# Altium schematic symbol library mrsl.SchLib: 228 symbols (part 2 of 2)
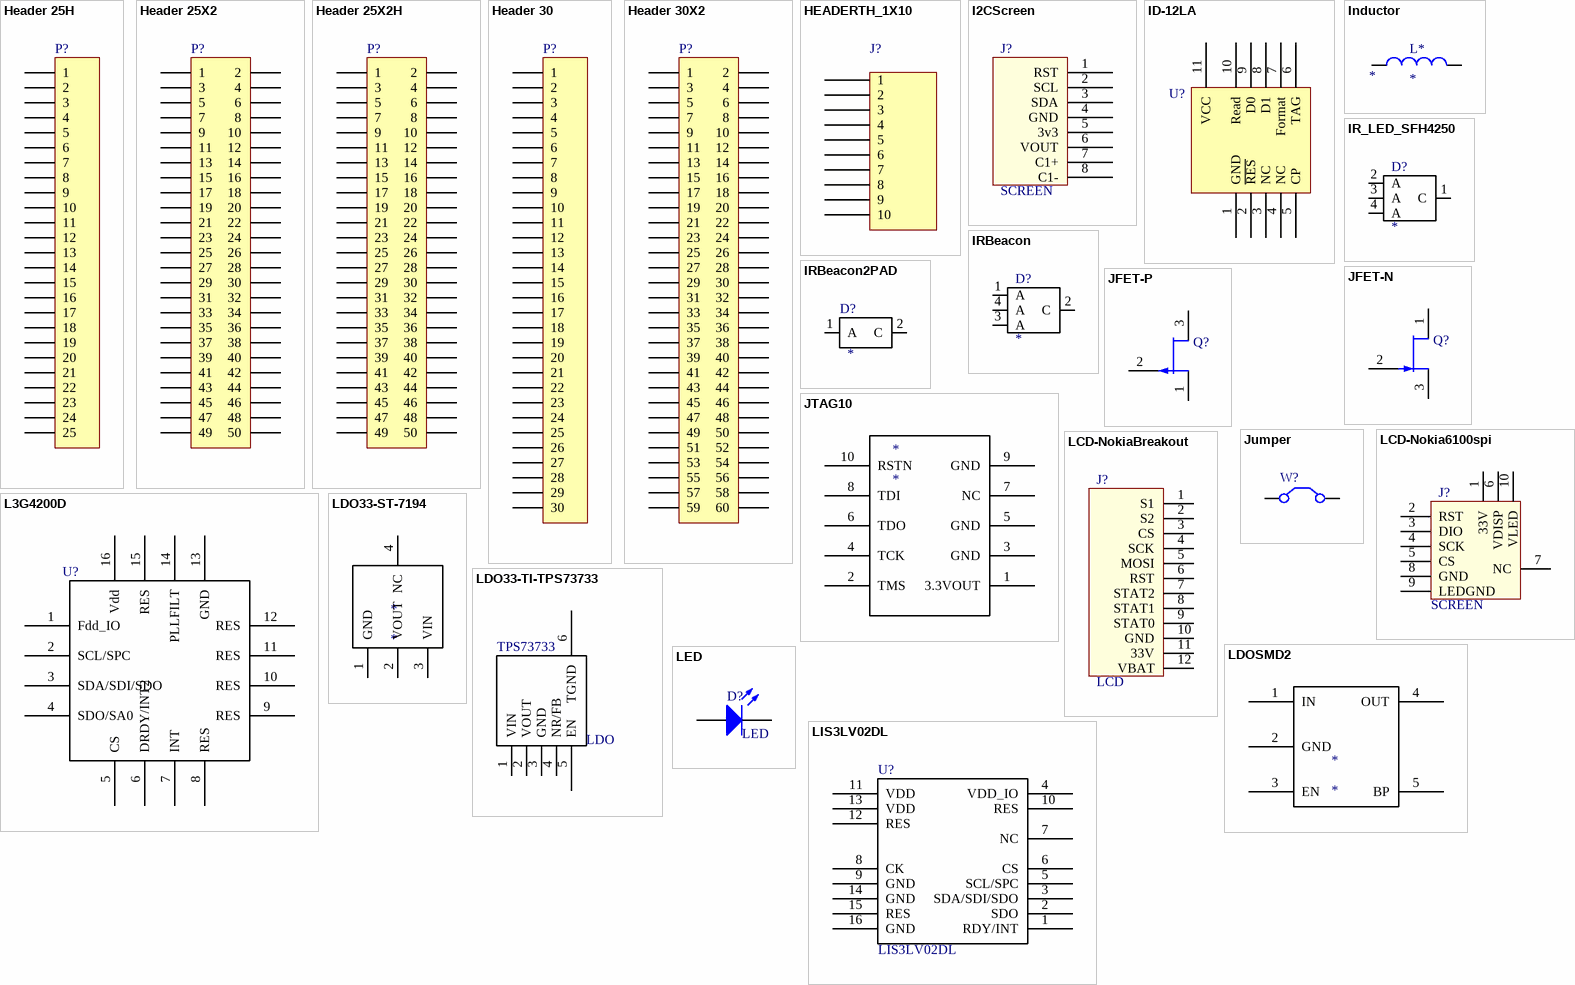
[diagram p8: symbols Header 25H to LIS3LV02DL]

## Header 25H
designator P?
Header, 25-Pin, Right Angle; LatestRevisionDate: 17-Jul-2002; LatestRevisionNote: Re-released for DXP Platform.; Publisher: Altium Limited
footprint HDR1X25H (Connector; Header; 25 Position; Right Angle)
signal-integrity model Connector
pins: 1, 2, 3, 4, 5, 6, 7, 8, 9, 10, 11, 12, 13, 14, 15, 16, 17, 18, 19, 20, 21, 22, 23, 24, 25

## Header 25X2
designator P?
Header, 25-Pin, Dual row; LatestRevisionDate: 17-Jul-2002; LatestRevisionNote: Re-released for DXP Platform.; Publisher: Altium Limited
footprint HDR2X25 (Connector; Header; 25x2 Position)
signal-integrity model Connector
pins: 1, 2, 3, 4, 5, 6, 7, 8, 9, 10, 11, 12, 13, 14, 15, 16, 17, 18, 19, 20, 21, 22, 23, 24, 25, 26, 27, 28, 29, 30, 31, 32, 33, 34, 35, 36, 37, 38, 39, 40, 41, 42, 43, 44, 45, 46, 47, 48, 49, 50

## Header 25X2H
designator P?
Header, 25-Pin, Dual row, Right Angle; LatestRevisionDate: 17-Jul-2002; LatestRevisionNote: Re-released for DXP Platform.; Publisher: Altium Limited
footprint HDR2X25H (Connector; Header; 25x2 Position; Right Angle)
signal-integrity model Connector
pins: 1, 2, 3, 4, 5, 6, 7, 8, 9, 10, 11, 12, 13, 14, 15, 16, 17, 18, 19, 20, 21, 22, 23, 24, 25, 26, 27, 28, 29, 30, 31, 32, 33, 34, 35, 36, 37, 38, 39, 40, 41, 42, 43, 44, 45, 46, 47, 48, 49, 50

## Header 30
designator P?
Header, 30-Pin; LatestRevisionDate: 17-Jul-2002; LatestRevisionNote: Re-released for DXP Platform.; Publisher: Altium Limited
footprint HDR1X30 (Connector; Header; 30 Position)
signal-integrity model Connector
pins: 1, 2, 3, 4, 5, 6, 7, 8, 9, 10, 11, 12, 13, 14, 15, 16, 17, 18, 19, 20, 21, 22, 23, 24, 25, 26, 27, 28, 29, 30

## Header 30X2
designator P?
Header, 30-Pin, Dual row; LatestRevisionDate: 17-Jul-2002; LatestRevisionNote: Re-released for DXP Platform.; Publisher: Altium Limited
footprint HDR2X30 (Connector; Header; 30x2 Position)
signal-integrity model Connector
pins: 1, 2, 3, 4, 5, 6, 7, 8, 9, 10, 11, 12, 13, 14, 15, 16, 17, 18, 19, 20, 21, 22, 23, 24, 25, 26, 27, 28, 29, 30, 31, 32, 33, 34, 35, 36, 37, 38, 39, 40, 41, 42, 43, 44, 45, 46, 47, 48, 49, 50, 51, 52, 53, 54, 55, 56, 57, 58, 59, 60

## HEADERTH_1X10
designator J?  (value not drawn)
footprint HEADERTH 1X10
pins: 1, 2, 3, 4, 5, 6, 7, 8, 9, 10

## I2CScreen
designator J?, comment SCREEN
footprint ScreenI2C (newhaven Display)
pins: 1 RST, 2 SCL, 3 SDA, 4 GND, 5 3v3, 6 VOUT, 7 C1+, 8 C1-

## ID-12LA
designator U?  (value not drawn)
footprint ID12-LA
pins: 1 GND, 2 ~{RES}, 3 NC (power), 4 NC (power), 5 CP, 6 TAG (power), 7 Format, 8 D1 (power), 9 D0 (power), 10 Read (power), 11 VCC (power)

## Inductor
designator L*
Value: *
footprint IndPow
pins: 1, 2

## IR_LED_SFH4250
designator D?
footprint IR_LED_SFH4250
pins: 1 C, 2 A, 3 A, 4 A

## IRBeacon
designator D?
footprint IRBeacon
pins: 1 A, 2 C, 3 A, 4 A

## IRBeacon2PAD
designator D?
footprint IRBeacon2pad
pins: 1 A, 2 C

## JFET-N
designator Q?
N-Channel JFET; Published: 8-Jun-2000; LatestRevisionDate: 17-Jul-2002; LatestRevisionNote: Re-released for DXP Platform.; PackageReference: TO-254-AA; Publisher: Altium Limited; Code_JEDEC: TO-254-AA
footprint SFM-T3/A6.6V (TO, Thru-Hole, Vertical, Heatsink Mounted; 3 In-Line Leads; Pitch 3.81 mm)
simulation model NJFET
pins: 1 D, 2 G, 3 S

## JFET-P
designator Q?
P-Channel JFET; Published: 8-Jun-2000; LatestRevisionDate: 17-Jul-2002; LatestRevisionNote: Re-released for DXP Platform.; PackageReference: TO-18A; Publisher: Altium Limited
footprint SO-F3/Y.75R (SC-89; 3 Flat Leads; Body 1.6 x 1.6 x 0.7 mm, inc leads (LxWxH typ))
simulation model PJFET
pins: 1 D, 2 G, 3 S

## JTAG10
designator *
footprint JTAG-10 (Connector, Socket Strip, Double Row, SMT, 20 Position, Vertical, Pitch 2mm, Body 20 x 4 mm (LxW))
pins: 1 3.3VOUT, 2 TMS, 3 GND, 4 TCK, 5 GND, 6 TDO, 7 NC, 8 TDI, 9 GND, 10 RSTN

## Jumper
designator W?
Jumper Wire; Published: 24-Mar-1999; LatestRevisionDate: 17-Jul-2002; LatestRevisionNote: Re-released for DXP Platform.; PackageReference: RAD-0.2; Publisher: Altium Limited
footprint RAD-0.2 (Radial Cap, Thru-Hole; 2 Leads; 0.2 in Pin Spacing)
pins: 1 C1, 2 C2

## L3G4200D
designator U?
3axis gyroscope, SPI
footprint L3G2004D (gyroscope)
pins: 1 Fdd_IO, 2 SCL/SPC, 3 SDA/SDI/SDO, 4 SDO/SA0, 5 CS, 6 DRDY/INT2, 7 INT, 8 RES, 9 RES, 10 RES, 11 RES, 12 RES, 13 GND, 14 PLLFILT, 15 RES, 16 Vdd

## LCD-Nokia6100spi
designator J?, comment SCREEN
footprint LCD-Nokia6100 (Connector, Socket Strip, Double Row, SMT, 20 Position, Vertical, Pitch 2mm, Body 20 x 4 mm (LxW))
pins: 1 33V, 2 RST, 3 DIO, 4 SCK, 5 CS, 6 VDISP, 7 NC, 8 GND, 9 LEDGND, 10 VLED

## LCD-NokiaBreakout
designator J?, comment LCD
footprint LCD-6100breakout
pins: 1 S1, 2 S2, 3 CS, 4 SCK, 5 MOSI, 6 RST, 7 STAT2, 8 STAT1, 9 STAT0, 10 GND, 11 33V, 12 VBAT

## LDO33-ST-7194
designator *
footprint SOT-223
pins: 1 GND, 2 VOUT, 3 VIN, 4 NC

## LDO33-TI-TPS73733
designator LDO, comment TPS73733
footprint SOT-223-5pin (sot223 tps73733)
pins: 1 VIN, 2 VOUT, 3 GND, 4 NR/FB, 5 EN, 6 TGND

## LDOSMD2
designator *
footprint LDOSMD2standin (SOT23, 5-Leads, Body 3.0x2.6mm (max), Pitch 0.95mm, IPC Medium Density)
pins: 1 IN, 2 GND, 3 EN, 4 OUT, 5 BP

## LED
designator D?
footprint SurfaceMount(603)
footprint SurfaceMount(1206)
footprint LED_PTH_3mm (Pin Though Hole 3mm LED with 0.1 Pitch Leads)
pins: 1 A, 2 K

## LIS3LV02DL
designator U?
footprint LGA16 (4.4x7.5x1 mm) (LCC, 16-Pins, Body 7.7x4.6mm (max), Pitch 1.00mm, IPC Medium Density)
pins: 1 RDY/INT, 2 SDO, 3 SDA/SDI/SDO, 4 VDD_IO, 5 SCL/SPC, 6 CS, 7 NC, 8 CK, 9 GND, 10 RES, 11 VDD, 12 RES, 13 VDD, 14 GND, 15 RES, 16 GND

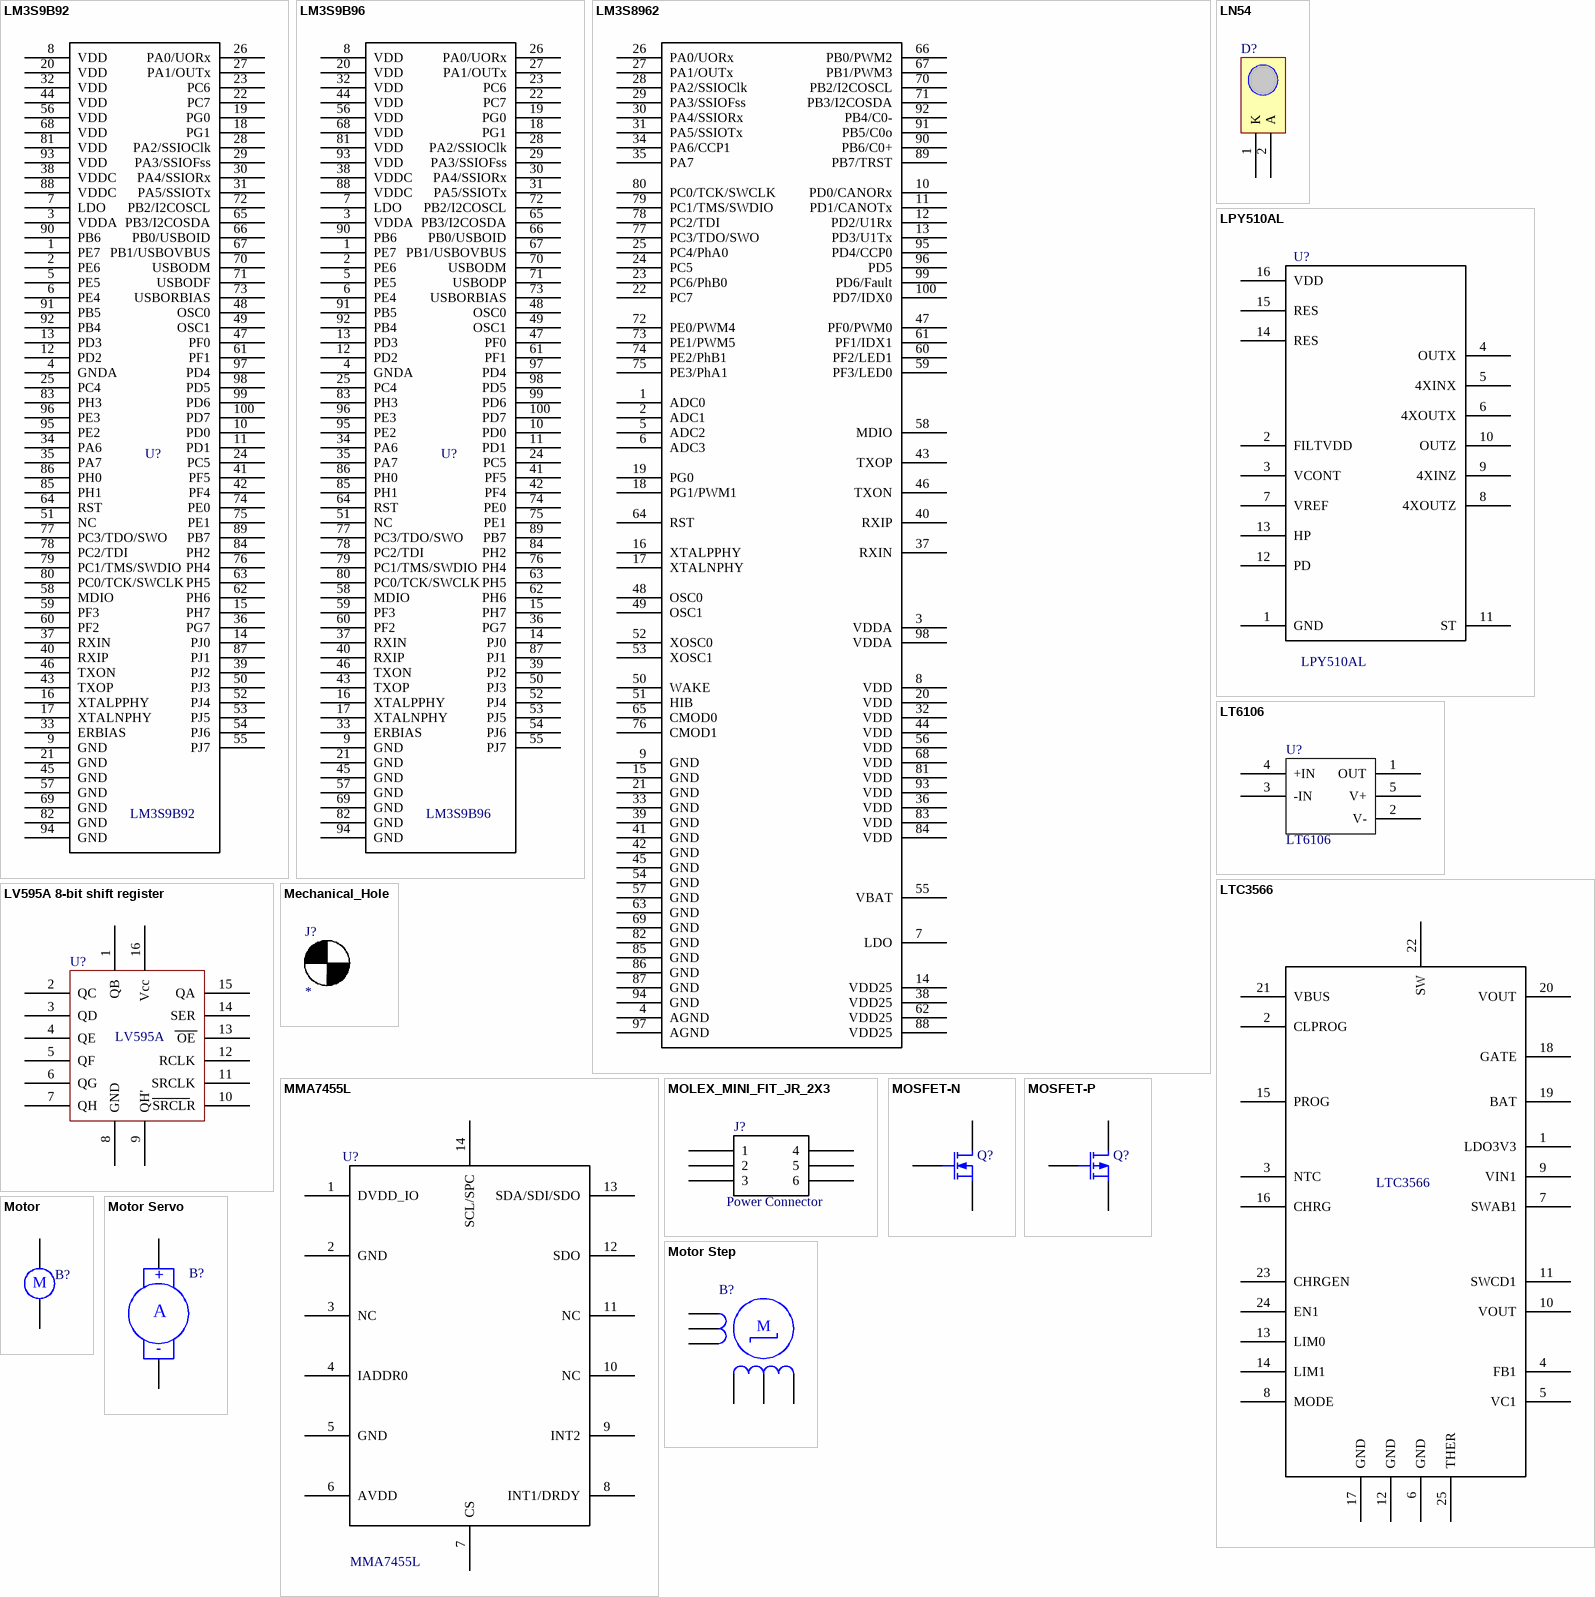
[diagram p5: symbols LM3S9B92 to Motor Step]

## LM3S9B92
designator U?
footprint LQFP-100 (100-Pin LQFP Package)
pins: 1 PE7, 2 PE6 "PE7", 3 VDDA "PE7", 4 GNDA "PE7", 5 PE5 "PE7", 6 PE4 "PE7", 7 LDO "PE7", 8 VDD, 9 GND, 10 PD0, 11 PD1, 12 PD2, 13 PD3, 14 PJ0, 15 PH7, 16 XTALPPHY, 17 XTALNPHY, 18 PG1, 19 PG0, 20 VDD, 21 GND, 22 PC7, 23 PC6, 24 PC5, 25 PC4, 26 PA0/UORx, 27 PA1/OUTx, 28 PA2/SSIOClk, 29 PA3/SSIOFss, 30 PA4/SSIORx, 31 PA5/SSIOTx, 32 VDD, 33 ERBIAS, 34 PA6, 35 PA7, 36 PG7, 37 RXIN, 38 VDDC, 39 PJ2, 40 RXIP, 41 PF5, 42 PF4, 43 TXOP, 44 VDD, 45 GND, 46 TXON, 47 PF0, 48 OSC0, 49 OSC1, 50 PJ3, 51 NC, 52 PJ4, 53 PJ5, 54 PJ6, 55 PJ7, 56 VDD, 57 GND, 58 MDIO, 59 PF3, 60 PF2, 61 PF1, 62 PH6, 63 PH5, 64 RST, 65 PB3/I2COSDA, 66 PB0/USBOID, 67 PB1/USBOVBUS, 68 VDD, 69 GND, 70 USBODM, 71 USBODF, 72 PB2/I2COSCL, 73 USBORBIAS, 74 PE0, 75 PE1, 76 PH4, 77 PC3/TDO/SWO, 78 PC2/TDI, 79 PC1/TMS/SWDIO, 80 PC0/TCK/SWCLK, 81 VDD, 82 GND, 83 PH3, 84 PH2, 85 PH1, 86 PH0, 87 PJ1, 88 VDDC, 89 PB7, 90 PB6, 91 PB5, 92 PB4, 93 VDD, 94 GND, 95 PE2, 96 PE3, 97 PD4, 98 PD5, 99 PD6, 100 PD7

## LM3S9B96
designator U?
footprint LQFP-100 (100-Pin LQFP Package)
pins: 1 PE7, 2 PE6 "PE7", 3 VDDA "PE7", 4 GNDA "PE7", 5 PE5 "PE7", 6 PE4 "PE7", 7 LDO "PE7", 8 VDD, 9 GND, 10 PD0, 11 PD1, 12 PD2, 13 PD3, 14 PJ0, 15 PH7, 16 XTALPPHY, 17 XTALNPHY, 18 PG1, 19 PG0, 20 VDD, 21 GND, 22 PC7, 23 PC6, 24 PC5, 25 PC4, 26 PA0/UORx, 27 PA1/OUTx, 28 PA2/SSIOClk, 29 PA3/SSIOFss, 30 PA4/SSIORx, 31 PA5/SSIOTx, 32 VDD, 33 ERBIAS, 34 PA6, 35 PA7, 36 PG7, 37 RXIN, 38 VDDC, 39 PJ2, 40 RXIP, 41 PF5, 42 PF4, 43 TXOP, 44 VDD, 45 GND, 46 TXON, 47 PF0, 48 OSC0, 49 OSC1, 50 PJ3, 51 NC, 52 PJ4, 53 PJ5, 54 PJ6, 55 PJ7, 56 VDD, 57 GND, 58 MDIO, 59 PF3, 60 PF2, 61 PF1, 62 PH6, 63 PH5, 64 RST, 65 PB3/I2COSDA, 66 PB0/USBOID, 67 PB1/USBOVBUS, 68 VDD, 69 GND, 70 USBODM, 71 USBODP, 72 PB2/I2COSCL, 73 USBORBIAS, 74 PE0, 75 PE1, 76 PH4, 77 PC3/TDO/SWO, 78 PC2/TDI, 79 PC1/TMS/SWDIO, 80 PC0/TCK/SWCLK, 81 VDD, 82 GND, 83 PH3, 84 PH2, 85 PH1, 86 PH0, 87 PJ1, 88 VDDC, 89 PB7, 90 PB6, 91 PB5, 92 PB4, 93 VDD, 94 GND, 95 PE2, 96 PE3, 97 PD4, 98 PD5, 99 PD6, 100 PD7

## LM3S8962
designator ?
footprint LQFP-100 (100-Pin LQFP Package)
pins: 1 ADC0 "PE7", 2 ADC1 "PE7", 3 VDDA "PE7", 4 AGND "PE7", 5 ADC2 "PE7", 6 ADC3 "PE7", 7 LDO "PE7", 8 VDD, 9 GND, 10 PD0/CANORx, 11 PD1/CANOTx, 12 PD2/U1Rx, 13 PD3/U1Tx, 14 VDD25, 15 GND, 16 XTALPPHY, 17 XTALNPHY, 18 PG1/PWM1, 19 PG0, 20 VDD, 21 GND, 22 PC7, 23 PC6/PhB0, 24 PC5, 25 PC4/PhA0, 26 PA0/UORx, 27 PA1/OUTx, 28 PA2/SSIOClk, 29 PA3/SSIOFss, 30 PA4/SSIORx, 31 PA5/SSIOTx, 32 VDD, 33 GND, 34 PA6/CCP1, 35 PA7, 36 VDD, 37 RXIN, 38 VDD25, 39 GND, 40 RXIP, 41 GND, 42 GND, 43 TXOP, 44 VDD, 45 GND, 46 TXON, 47 PF0/PWM0, 48 OSC0, 49 OSC1, 50 WAKE, 51 HIB, 52 XOSC0, 53 XOSC1, 54 GND, 55 VBAT, 56 VDD, 57 GND, 58 MDIO, 59 PF3/LED0, 60 PF2/LED1, 61 PF1/IDX1, 62 VDD25, 63 GND, 64 RST, 65 CMOD0, 66 PB0/PWM2, 67 PB1/PWM3, 68 VDD, 69 GND, 70 PB2/I2COSCL, 71 PB3/I2COSDA, 72 PE0/PWM4, 73 PE1/PWM5, 74 PE2/PhB1, 75 PE3/PhA1, 76 CMOD1, 77 PC3/TDO/SWO, 78 PC2/TDI, 79 PC1/TMS/SWDIO, 80 PC0/TCK/SWCLK, 81 VDD, 82 GND, 83 VDD, 84 VDD, 85 GND, 86 GND, 87 GND, 88 VDD25, 89 PB7/TRST, 90 PB6/C0+, 91 PB5/C0o, 92 PB4/C0-, 93 VDD, 94 GND, 95 PD4/CCP0, 96 PD5, 97 AGND, 98 VDDA, 99 PD6/Fault, 100 PD7/IDX0

## LN54
designator D?  (value not drawn)
footprint LN54
pins: 1 K, 2 A

## LPY510AL
designator U?
footprint LGA16 (LCC, 16-Pins, Body 5.2x5.2mm (max), Pitch 0.80mm, IPC Medium Density)
pins: 1 GND, 2 FILTVDD, 3 VCONT, 4 OUTX, 5 4XINX, 6 4XOUTX, 7 VREF, 8 4XOUTZ, 9 4XINZ, 10 OUTZ, 11 ST, 12 PD , 13 HP, 14 RES, 15 RES, 16 VDD

## LT6106
designator U?
Current Sense Amplifier
footprint TSOT-23-5_LT6106 (A SOT-23 package with 5 pins for LT6106)
pins: 1 OUT, 2 V-, 3 -IN, 4 +IN, 5 V+

## LTC3566
designator LTC3566
footprint QFN-24 (QFN, 24-Leads, Body 4.1x4.1mm (max), Pitch 0.50mm, IPC Medium Density)
pins: 1 LDO3V3, 2 CLPROG, 3 NTC, 4 FB1, 5 VC1, 6 GND, 7 SWAB1, 8 MODE, 9 VIN1, 10 VOUT, 11 SWCD1, 12 GND, 13 LIM0, 14 LIM1, 15 PROG, 16 CHRG, 17 GND, 18 GATE, 19 BAT, 20 VOUT, 21 VBUS, 22 SW, 23 CHRGEN, 24 EN1, 25 THER

## LV595A 8-bit shift register
designator LV595A, comment U?
footprint QFN-16 (QFN, 16-Leads, Body 3.7x4.2mm (max), Pitch 0.50mm, Pitch1 1.50mm, IPC Medium Density)
pins: 1 QB, 2 QC, 3 QD, 4 QE, 5 QF, 6 QG, 7 QH, 8 GND, 9 QH', 10 SRCLR, 11 SRCLK, 12 RCLK, 13 OE, 14 SER, 15 QA, 16 Vcc

## Mechanical_Hole
designator J?
A mechanical hole for mounting the board
footprint #4_Screw_Hole (#4 Screw Hole, 3.2766mm Hole Dia., Plated)
footprint .07_Screw_Hole (Screw Hole, .07mil Hole Dia., Plated)

## MMA7455L
designator U?
3axis accelerometer
footprint MMA7455L (LGA, 14 pad, accelerometer footprint)
pins: 1 DVDD_IO, 2 GND, 3 NC, 4 IADDR0, 5 GND, 6 AVDD, 7 CS, 8 INT1/DRDY, 9 INT2, 10 NC, 11 NC, 12 SDO, 13 SDA/SDI/SDO, 14 SCL/SPC

## MOLEX_MINI_FIT_JR_2X3
designator J?, comment Power Connector
footprint MOLEX_MINI-FIT_JR_5569_2X3_HORIZ (Molex Mini-Fit Jr 5569 Shrouded Rectangular Male Header, Through Hole, Right Angle, 2X3 Pins with Board Lock)
pins: 1, 2, 3, 4, 5, 6

## MOSFET-N
designator Q?
N-Channel MOSFET; Published: 8-Jun-2000; LatestRevisionDate: 17-Jul-2002; LatestRevisionNote: Re-released for DXP Platform.; PackageVersion: 1995/1996; PackageReference: E3; Publisher: Altium Limited
footprint BCY-W3/B.8 (TO, Flat Index; 3 In-Line, Axial Leads; Body Dia. 4.6mm; Lead Dia. 0.5 mm (max))
simulation model NMOS (MOSFET-N)
pins: 1 D, 2 G, 3 S

## MOSFET-P
designator Q?
P-Channel MOSFET; Published: 8-Jun-2000; LatestRevisionDate: 17-Jul-2002; LatestRevisionNote: Re-released for DXP Platform.; PackageVersion: 1995/1996; PackageReference: E3; Publisher: Altium Limited
footprint BCY-W3/B.8 (TO, Flat Index; 3 In-Line, Axial Leads; Body Dia. 4.6mm; Lead Dia. 0.5 mm (max))
simulation model PMOS (MOSFET-P)
pins: 1 G, 2 S, 3 D

## Motor
designator B?
Motor, General Kind; Published: 24-Mar-1999; LatestRevisionDate: 17-Jul-2002; LatestRevisionNote: Re-released for DXP Platform.; PackageReference: RB5-10.5; Publisher: Altium Limited
footprint RB5-10.5 (Motor, General Kind; 2 Leads)
pins: 1, 2
text: M

## Motor Servo
designator B?
Servo Motor; Published: 24-Mar-1999; LatestRevisionDate: 17-Jul-2002; LatestRevisionNote: Re-released for DXP Platform.; PackageReference: RAD-0.4; Publisher: Altium Limited
footprint RAD-0.4 (Radial Cap, Thru-Hole; 2 Leads; 0.4 in Pin Spacing)
pins: 1 +, 2 -
text: A

## Motor Step
designator B?
Motor Stepper; Published: 24-Mar-1999; LatestRevisionDate: 17-Jul-2002; LatestRevisionNote: Re-released for DXP Platform.; PackageReference: DIP-6; Publisher: Altium Limited; Code_JEDEC: MO-001-AM
footprint DIP-6 (DIP; 6 Leads; Row Spacing 7.62 mm; Pitch 2.54 mm)
pins: 1, 2, 3, 4, 5, 6
text: M

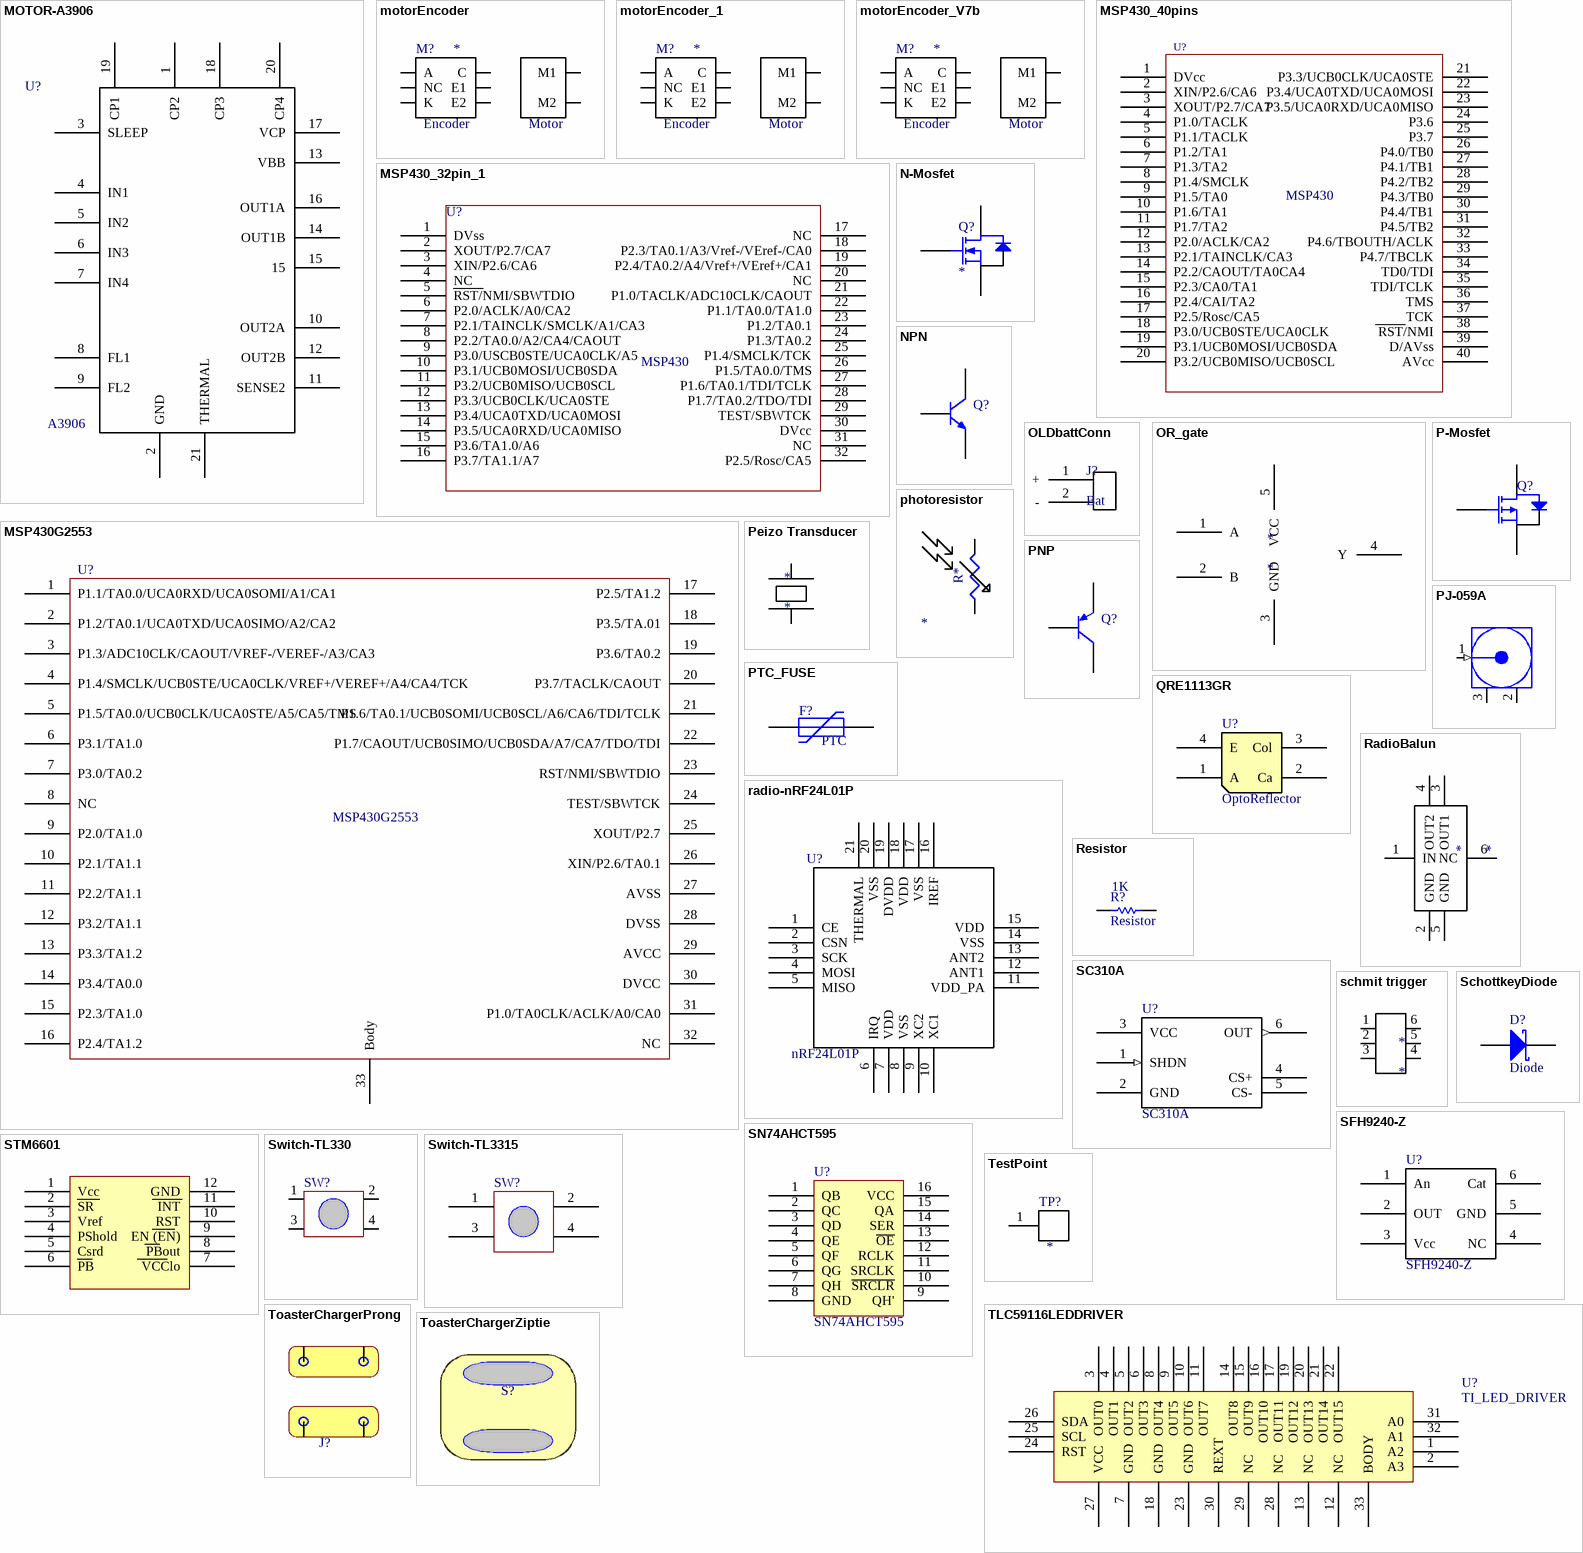
[diagram p6: symbols MOTOR-A3906 to ToasterChargerZiptie]

## MOTOR-A3906
designator U?, comment A3906
footprint QFN-20 (QFN, 20-Leads, Body 4.2x4.2mm (max), Pitch 0.50mm, IPC Medium Density)
pins: 1 CP2, 2 GND, 3 SLEEP, 4 IN1, 5 IN2, 6 IN3, 7 IN4, 8 FL1, 9 FL2, 10 OUT2A, 11 SENSE2, 12 OUT2B, 13 VBB, 14 OUT1B, 15, 16 OUT1A, 17 VCP, 18 CP3, 19 CP1, 20 CP4, 21 THERMAL

## motorEncoder
designator M?
footprint motorEncoder (Precision Wire Wound Inductor, 2-Leads, Body 2.5x2.3mm, IPC Medium Density)
pins: A, C, E1, E2, K, M1, M2, NC
text: Encoder; Motor

## motorEncoder_1
designator M?
footprint motorEncoderV7 (Motor with encoder, Pololu)
pins: A, C, E1, E2, K, M1, M2, NC
text: Encoder; Motor

## motorEncoder_V7b
designator M?
footprint motorEncoder_V7b (Precision Wire Wound Inductor, 2-Leads, Body 2.5x2.3mm, IPC Medium Density)
pins: A, C, E1, E2, K, M1, M2, NC
text: Encoder; Motor

## MSP430_32pin_1
designator U?, comment MSP430
footprint MSP430_32PIN (32 pin QFN)
pins: 1 DVss, 2 XOUT/P2.7/CA7, 3 XIN/P2.6/CA6, 4 NC, 5 RST/NMI/SBWTDIO, 6 P2.0/ACLK/A0/CA2, 7 P2.1/TAINCLK/SMCLK/A1/CA3, 8 P2.2/TA0.0/A2/CA4/CAOUT, 9 P3.0/USCB0STE/UCA0CLK/A5, 10 P3.1/UCB0MOSI/UCB0SDA, 11 P3.2/UCB0MISO/UCB0SCL, 12 P3.3/UCB0CLK/UCA0STE, 13 P3.4/UCA0TXD/UCA0MOSI, 14 P3.5/UCA0RXD/UCA0MISO, 15 P3.6/TA1.0/A6, 16 P3.7/TA1.1/A7, 17 NC, 18 P2.3/TA0.1/A3/Vref-/VEref-/CA0, 19 P2.4/TA0.2/A4/Vref+/VEref+/CA1, 20 NC, 21 P1.0/TACLK/ADC10CLK/CAOUT, 22 P1.1/TA0.0/TA1.0, 23 P1.2/TA0.1, 24 P1.3/TA0.2, 25 P1.4/SMCLK/TCK, 26 P1.5/TA0.0/TMS, 27 P1.6/TA0.1/TDI/TCLK, 28 P1.7/TA0.2/TDO/TDI, 29 TEST/SBWTCK, 30 DVcc, 31 NC, 32 P2.5/Rosc/CA5

## MSP430_40pins
designator U?, comment MSP430
footprint MSP430_40PIN (40 pin QFN)
pins: 1 DVcc, 2 XIN/P2.6/CA6, 3 XOUT/P2.7/CA7, 4 P1.0/TACLK, 5 P1.1/TACLK, 6 P1.2/TA1, 7 P1.3/TA2, 8 P1.4/SMCLK, 9 P1.5/TA0, 10 P1.6/TA1, 11 P1.7/TA2, 12 P2.0/ACLK/CA2, 13 P2.1/TAINCLK/CA3, 14 P2.2/CAOUT/TA0CA4, 15 P2.3/CA0/TA1, 16 P2.4/CAI/TA2, 17 P2.5/Rosc/CA5, 18 P3.0/UCB0STE/UCA0CLK, 19 P3.1/UCB0MOSI/UCB0SDA, 20 P3.2/UCB0MISO/UCB0SCL, 21 P3.3/UCB0CLK/UCA0STE, 22 P3.4/UCA0TXD/UCA0MOSI, 23 P3.5/UCA0RXD/UCA0MISO, 24 P3.6, 25 P3.7, 26 P4.0/TB0, 27 P4.1/TB1, 28 P4.2/TB2, 29 P4.3/TB0, 30 P4.4/TB1, 31 P4.5/TB2, 32 P4.6/TBOUTH/ACLK, 33 P4.7/TBCLK, 34 TD0/TDI, 35 TDI/TCLK, 36 TMS, 37 TCK, 38 RST/NMI, 39 D/AVss, 40 AVcc

## MSP430G2553
designator U?
footprint QFN-32 (QFN, 32-Leads, Body 5.2x5.2mm (max), Pitch 0.50mm, IPC Medium Density)
pins: 1 P1.1/TA0.0/UCA0RXD/UCA0SOMI/A1/CA1, 2 P1.2/TA0.1/UCA0TXD/UCA0SIMO/A2/CA2, 3 P1.3/ADC10CLK/CAOUT/VREF-/VEREF-/A3/CA3, 4 P1.4/SMCLK/UCB0STE/UCA0CLK/VREF+/VEREF+/A4/CA4/TCK, 5 P1.5/TA0.0/UCB0CLK/UCA0STE/A5/CA5/TMS, 6 P3.1/TA1.0, 7 P3.0/TA0.2, 8 NC, 9 P2.0/TA1.0, 10 P2.1/TA1.1, 11 P2.2/TA1.1, 12 P3.2/TA1.1, 13 P3.3/TA1.2, 14 P3.4/TA0.0, 15 P2.3/TA1.0, 16 P2.4/TA1.2, 17 P2.5/TA1.2, 18 P3.5/TA.01, 19 P3.6/TA0.2, 20 P3.7/TACLK/CAOUT, 21 P1.6/TA0.1/UCB0SOMI/UCB0SCL/A6/CA6/TDI/TCLK, 22 P1.7/CAOUT/UCB0SIMO/UCB0SDA/A7/CA7/TDO/TDI, 23 RST/NMI/SBWTDIO, 24 TEST/SBWTCK, 25 XOUT/P2.7, 26 XIN/P2.6/TA0.1, 27 AVSS, 28 DVSS, 29 AVCC, 30 DVCC, 31 P1.0/TA0CLK/ACLK/A0/CA0, 32 NC, 33 Body

## N-Mosfet
designator Q?
footprint SOT-23 (SOT23, 3-Leads, Body 3.0x2.5mm (max), Pitch 0.95mm, IPC Medium Density)
pins: 1 G, 2 S, 3 D

## NPN
designator Q?  (value not drawn)
footprint SOT-23 (SOT23, 3-Leads, Body 3.0x2.5mm (max), Pitch 0.95mm, IPC Medium Density)
pins: 1 B, 2 E, 3 C

## OLDbattConn
designator J?, comment Bat
footprint Polarized Battery Connector
pins: 1 +, 2 -

## OR_gate
designator *
pins: 1 A, 2 B, 3 GND, 4 Y, 5 VCC

## P-Mosfet
designator Q?  (value not drawn)
footprint SOT-23 (SOT23, 3-Leads, Body 3.0x2.5mm (max), Pitch 0.95mm, IPC Medium Density)
pins: 1 G, 2 S, 3 D

## Peizo Transducer
designator *
footprint piezoStandin (Molded Capacitor, 2-Leads, Body 3.2x1.6mm, IPC Medium Density)
pins: 1, 2

## photoresistor
designator R*  (value not drawn)
Value: *
footprint photoresistor
pins: 1, 2

## PJ-059A
designator ?
footprint PJ-059A (DC power jack, rated at 16 V. For use in Toaster Charger.)
pins: 1 VCC (in) "Signal Pin", 2 GND (power), 3

## PNP
designator Q?
footprint SOT-23 (SOT23, 3-Leads, Body 3.0x2.5mm (max), Pitch 0.95mm, IPC Medium Density)
pins: 1 B, 2 E, 3 C

## PTC_FUSE
designator F?, comment PTC
Fuse; Published: 8-Jun-2000; LatestRevisionDate: 17-Jul-2002; LatestRevisionNote: Re-released for DXP Platform.; PackageReference: PIN-W2/E2.8; Publisher: Altium Limited
footprint ERJ8G-1206 (Chip Resistor, Body 3.2x1.6mm, IPC High Density)
footprint J1-2920 (Standard component footprint - 29x20 mils or 75x55 mm.)
footprint J1-1812 (Standard surface mount chip - 45 x 32 mm)
pins: 1, 2

## QRE1113GR
designator U?, comment OptoReflector
footprint QRE1113 (Reflective Opto Sensor with Analog Output)
pins: 1 A, 2 Ca, 3 Col, 4 E

## radio-nRF24L01P
designator U?, comment nRF24L01P
footprint QFN-20 (QFN, 20-Leads, Body 4.2x4.2mm (max), Pitch 0.50mm, IPC Medium Density)
pins: 1 CE, 2 CSN, 3 SCK, 4 MOSI, 5 MISO, 6 IRQ, 7 VDD, 8 VSS, 9 XC2, 10 XC1, 11 VDD_PA, 12 ANT1, 13 ANT2, 14 VSS, 15 VDD, 16 IREF, 17 VSS, 18 VDD, 19 DVDD, 20 VSS, 21 THERMAL

## RadioBalun
designator *
footprint RadioBalun (Radio Balun footprint)
pins: 1 IN, 2 GND, 3 OUT1, 4 OUT2, 5 GND, 6 NC

## Resistor
designator R?  value 1K
Published: 8-Jun-2000; LatestRevisionDate: 17-Jul-2002; LatestRevisionNote: Re-released for DXP Platform.; PackageReference: AXIAL-0.3; Publisher: Altium Limited; PackageDescription: Axial Device, Thru-Hole; 2 Leads; 0.3 in Pin Spacing
simulation model RESISTOR (Resistor)
signal-integrity model Res
footprint ERJ8G-1206 (Chip Resistor, Body 3.2x1.6mm, IPC High Density)
pins: 1, 2

## SC310A
designator U?
High-Side Current-Sense Amplifier with Low Impedance Voltage Output
footprint SOT-23-6 (SOT23, 6-Leads, Body 3.0x2.5mm (max), Pitch 0.95mm, IPC Medium Density)
pins: 1 SHDN (in), 2 GND, 3 VCC (power), 4 CS+, 5 CS-, 6 OUT (out)

## schmit trigger
designator *
footprint DCK(R-PDSO-C6) (TSOP, 6-Leads, Body 2.2x1.4mm (max), Pitch 0.65mm, IPC Medium Density)
pins: 1, 2, 3, 4, 5, 6 4

## SchottkeyDiode
designator D?, comment Diode
footprint SurfaceMount(603)
pins: 1 K, 2 A

## SFH9240-Z
designator U?
footprint SFH9240-Z (Reflective Interrupter with Schmitt-Trigger)
pins: 1 An, 2 OUT, 3 Vcc, 4 NC, 5 GND, 6 Cat

## SN74AHCT595
designator U?
shift register
footprint TSSOP-16
pins: 1 QB, 2 QC, 3 QD, 4 QE, 5 QF, 6 QG, 7 QH, 8 GND, 9 QH', 10 ~{SRCLR}, 11 SRCLK, 12 RCLK, 13 ~{OE}, 14 SER, 15 QA, 16 VCC

## STM6601
designator *  (value not drawn)
footprint TDFN12 (power supervisor)
pins: 1 Vcc (oc), 2 SR, 3 Vref, 4 PShold, 5 Csrd, 6 PB, 7 VCClo, 8 PBout, 9 EN (EN), 10 RST, 11 INT, 12 GND

## Switch-TL330
designator SW?
footprint Switch-TL3315 (Small SMD Tact Switch E-Switch TL3315)
footprint SwitchTall-TL330 (SMD Tall Tact Switch E-Switch TL330)
pins: 1, 2, 3, 4

## Switch-TL3315
designator SW?
footprint Switch-TL3315 (Small SMD Tact Switch E-Switch TL3315)
pins: 1, 2, 3, 4

## TestPoint
designator TP?
footprint TestPoint
pins: 1

## TLC59116LEDDRIVER
designator U?, comment TI_LED_DRIVER
footprint QFN32-LEDTLC59116 (QFN, 32-Leads, Body 5.2x5.2mm (max), Pitch 0.50mm, IPC Medium Density)
pins: 1 A2, 2 A3, 3 OUT0, 4 OUT1, 5 OUT2, 6 OUT3, 7 GND, 8 OUT4, 9 OUT5, 10 OUT6, 11 OUT7, 12 NC, 13 NC, 14 OUT8, 15 OUT9, 16 OUT10, 17 OUT11, 18 GND, 19 OUT12, 20 OUT13, 21 OUT14, 22 OUT15, 23 GND, 24 RST, 25 SCL, 26 SDA, 27 VCC, 28 NC, 29 NC, 30 REXT, 31 A0, 32 A1, 33 BODY

## ToasterChargerProng
designator J?  (value not drawn)
Charger Prong Footprint for Toaster Charger; Published: 24-Mar-1999; LatestRevisionDate: 17-Jul-2002; LatestRevisionNote: Re-released for DXP Platform.; PackageReference: RAD-0.2; Publisher: Altium Limited
footprint ToasterChargerProng (PCB footprint for toaster Charger clips)
pins: 1, 2, 3, 4

## ToasterChargerZiptie
designator S?  (value not drawn)
Slot for Ziptie connection between PCB and Toaster Charger
footprint TOASTERCHARGERZIPTIEREVISED2 (2nd revision for Ziptie for Toaster charger, now a cut on the mechanical layer.)

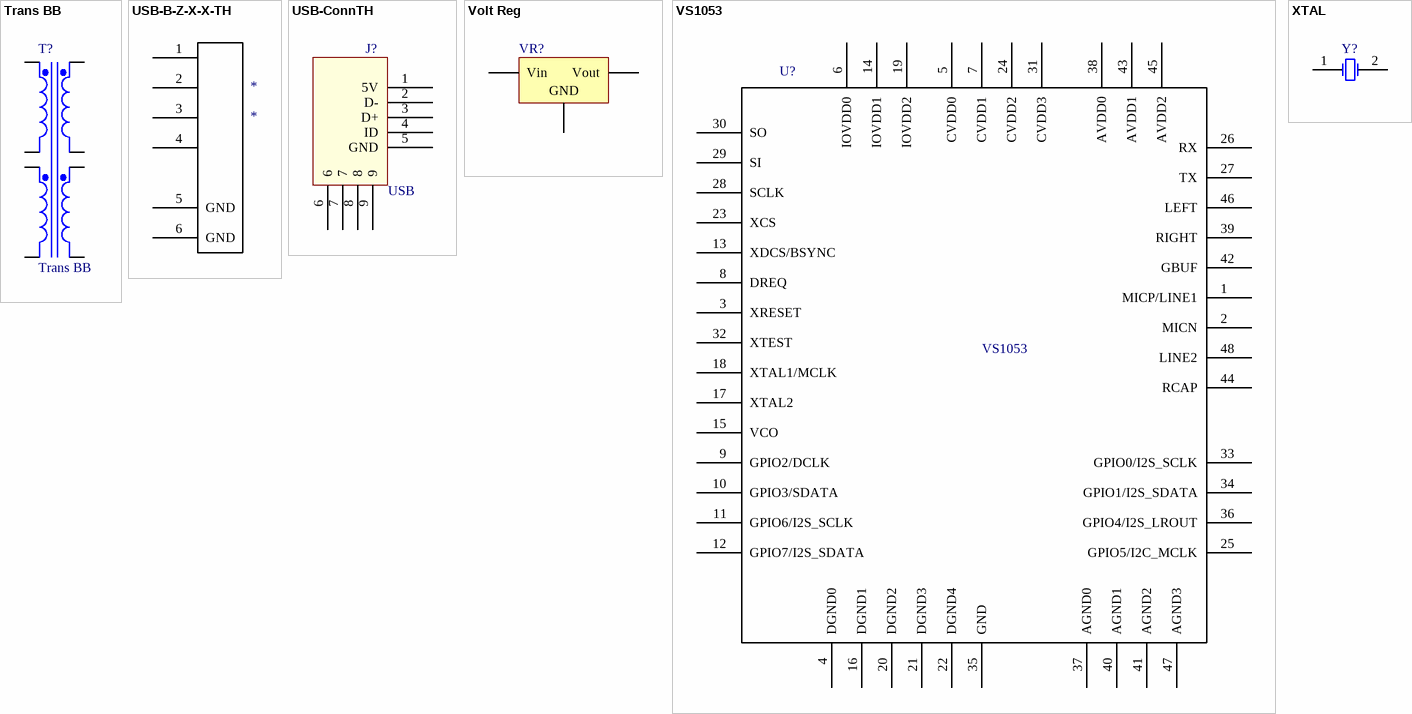
[diagram p7: symbols Trans BB to XTAL]

## Trans BB
designator T?
Buck-boost Transformer (Ideal); Published: 25-Jan-2001; LatestRevisionDate: 17-Jul-2002; LatestRevisionNote: Re-released for DXP Platform.; PackageReference: TRF_8; Publisher: Altium Limited
footprint TRF_8 (Buck-boost Transformer (Ideal); 8 Leads)
simulation model IDEAL4W (Spice Subcircuit)
pins: 1 Pri1+, 2 Pri1-, 3 Pri2+, 4 Pri2-, 5 Sec1+, 6 Sec1-, 7 Sec2+, 8 Sec2-

## USB-B-Z-X-X-TH
designator *
footprint USB-minib (USB minib connector)
pins: 1, 2, 3, 4, 5 GND, 6 GND

## USB-ConnTH
designator J?, comment USB
footprint USB Minib (thru-hole)
pins: 1 5V, 2 D-, 3 D+, 4 ID, 5 GND, 6, 7, 8, 9

## Volt Reg
designator VR?
Voltage Regulator; Published: 24-Mar-1999; LatestRevisionDate: 29-May-2009; LatestRevisionNote: IPC-7351 Footprint Added.; PackageReference: D2PAK; Publisher: Altium Limited; PackageDescription: 3-Pin Transistor Outline Package 2.54 mm Pitch, 15.1 mm Lead Span
footprint TO254P1510-3_4N (D2-PAK, 4-Leads, Body 8.8x10.4mm, Pitch 2.54mm, Lead Span 15.1mm, IPC Medium Density)
footprint TO254P1510-3_4L (D2-PAK, 4-Leads, Body 8.8x10.4mm, Pitch 2.54mm, Lead Span 15.1mm, IPC High Density)
footprint TO254P1510-3_4M (D2-PAK, 4-Leads, Body 8.8x10.4mm, Pitch 2.54mm, Lead Span 15.1mm, IPC Low Density)
pins: 1 Vin, 2 GND, 3 Vout

## VS1053
designator U?
footprint LQFP-48 (sound chip (9x9mm))
pins: 1 MICP/LINE1, 2 MICN, 3 XRESET, 4 DGND0, 5 CVDD0, 6 IOVDD0, 7 CVDD1, 8 DREQ, 9 GPIO2/DCLK, 10 GPIO3/SDATA, 11 GPIO6/I2S_SCLK, 12 GPIO7/I2S_SDATA, 13 XDCS/BSYNC, 14 IOVDD1, 15 VCO, 16 DGND1, 17 XTAL2, 18 XTAL1/MCLK, 19 IOVDD2, 20 DGND2, 21 DGND3, 22 DGND4, 23 XCS, 24 CVDD2, 25 GPIO5/I2C_MCLK, 26 RX, 27 TX, 28 SCLK, 29 SI, 30 SO, 31 CVDD3, 32 XTEST, 33 GPIO0/I2S_SCLK, 34 GPIO1/I2S_SDATA, 35 GND, 36 GPIO4/I2S_LROUT, 37 AGND0, 38 AVDD0, 39 RIGHT, 40 AGND1, 41 AGND2, 42 GBUF, 43 AVDD1, 44 RCAP, 45 AVDD2, 46 LEFT, 47 AGND3, 48 LINE2

## XTAL
designator Y?
Crystal Oscillator; Published: 8-Jun-2000; LatestRevisionDate: 17-Jul-2002; LatestRevisionNote: Re-released for DXP Platform.; PackageReference: R38; Publisher: Altium Limited
footprint BCY-W2/D3.1 (Crystal, Thru-Hole; 2 Leads; Body 3.1 x 8.2 mm (Dia.xH))
simulation model XTAL (Spice Subcircuit)
pins: 1 OSC1, 2 OSC2